# Altium schematic symbol library ESP32-S3R8.Schlib: 1 symbol
Pins are listed as number, name and electrical type; pins without a type are passive.

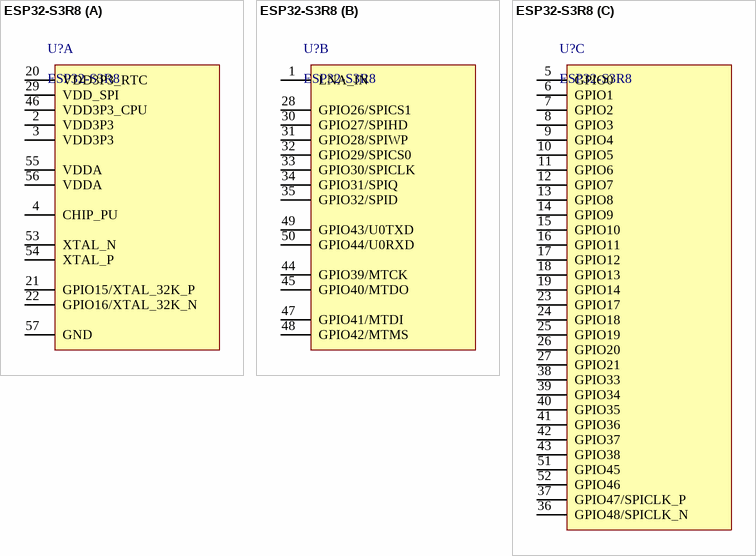
[diagram p0: symbol ESP32-S3R8]

## ESP32-S3R8
designator U?
IC RF TxRx + MCU Bluetooth, WiFi 802.11b/g/n, Bluetooth v5.0 2.412GHz ~ 2.484GHz 56-VFQFN Exposed Pad
part A pins: 2 VDD3P3, 3 VDD3P3, 4 CHIP_PU, 20 VDD3P3_RTC, 21 GPIO15/XTAL_32K_P, 22 GPIO16/XTAL_32K_N, 29 VDD_SPI, 46 VDD3P3_CPU, 53 XTAL_N, 54 XTAL_P, 55 VDDA, 56 VDDA, 57 GND
part B pins: 1 LNA_IN, 28 GPIO26/SPICS1, 30 GPIO27/SPIHD, 31 GPIO28/SPIWP, 32 GPIO29/SPICS0, 33 GPIO30/SPICLK, 34 GPIO31/SPIQ, 35 GPIO32/SPID, 44 GPIO39/MTCK, 45 GPIO40/MTDO, 47 GPIO41/MTDI, 48 GPIO42/MTMS, 49 GPIO43/U0TXD, 50 GPIO44/U0RXD
part C pins: 5 GPIO0, 6 GPIO1, 7 GPIO2, 8 GPIO3, 9 GPIO4, 10 GPIO5, 11 GPIO6, 12 GPIO7, 13 GPIO8, 14 GPIO9, 15 GPIO10, 16 GPIO11, 17 GPIO12, 18 GPIO13, 19 GPIO14, 23 GPIO17, 24 GPIO18, 25 GPIO19, 26 GPIO20, 27 GPIO21, 36 GPIO48/SPICLK_N, 37 GPIO47/SPICLK_P, 38 GPIO33, 39 GPIO34, 40 GPIO35, 41 GPIO36, 42 GPIO37, 43 GPIO38, 51 GPIO45, 52 GPIO46